# Altium footprint library Buffer_Fairchild_74LCX126_DQFN-14.PcbLib: 1 footprints
Each footprint in its own frame and in the unit in brackets; x right, y up, seen from the top. Pads: shape width x height; smd on the part's side, far side on the other; paste and mask are expansions set on the pad; w line width, h text height; cw(c..) or ccw(c..) is an arc to the next point about the centre after c.
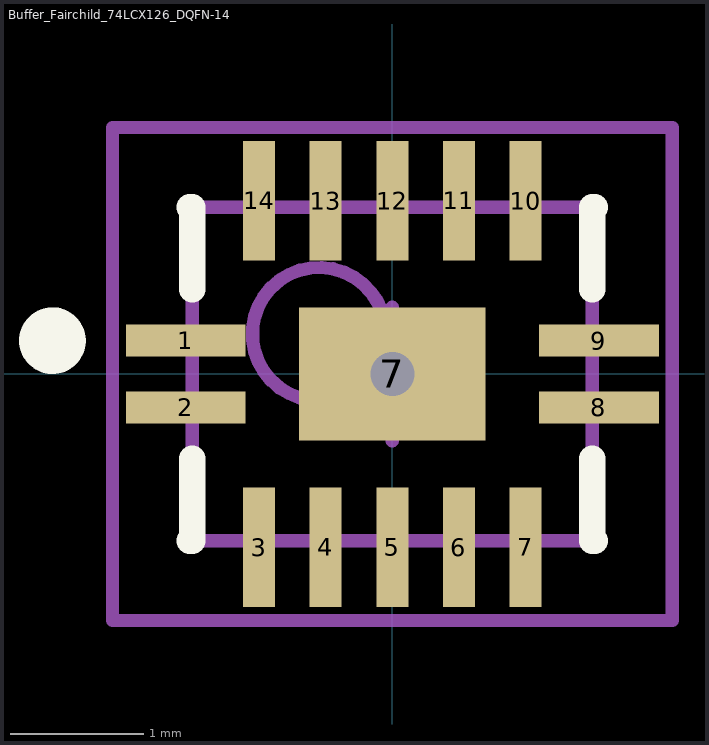
[diagram p0: the footprint, top view; thin cyan lines are the x and y axes]

## Buffer_Fairchild_74LCX126_DQFN-14 [mm]
height 0.8
pads (15):
  rect 0.9x0.24 smd: 1(-1.55,0.25) 2(-1.55,-0.25) 8(1.55,-0.25) 9(1.55,0.25)
  rect 0.24x0.9 smd: 3(-1,-1.3) 4(-0.5,-1.3) 5(0,-1.3) 6(0.5,-1.3) 7(1,-1.3) 10(1,1.3) 11(0.5,1.3) 12(0,1.3) 13(-0.5,1.3) 14(-1,1.3)
  rect 1.4x1 smd: 7(0,0)
via 0,0 diameter 0.66 hole 0.33
Top Overlay:
  circle w0.25: c-2.55,0.25 r0.125
  lines w0.2: -1.52,-1.25 -1.5,-1.25 -1.5,-0.635 ; -1.52,1.25 -1.5,1.25 -1.5,0.635 ; 1.5,-0.635 1.5,-1.25 1.52,-1.25 ; 1.5,0.635 1.5,1.25 1.52,1.25
Mechanical 13:
  circle w0.1: c-0.55,0.3 r0.5
  lines w0.1: -1.5,-1.25 -1.5,1.25 1.5,1.25 1.5,-1.25 -1.5,-1.25
Mechanical 15:
  lines w0.1: -0.5,0 0.5,0 ; 0,-0.5 0,0.5 ; -2.1,-1.85 -2.1,1.85 2.1,1.85 2.1,-1.85 -2.1,-1.85
3D body: height 0.8, standoff 0, extent -1.5,-1.25 1.5,1.25